# Altium footprint library MC-IMX6Q-BOARD.PcbLib: 56 footprints (part 4 of 4)
Each footprint in its own frame and in the unit in brackets; x right, y up, seen from the top. Pads: shape width x height; smd on the part's side, far side on the other; paste and mask are expansions set on the pad; w line width, h text height; cw(c..) or ccw(c..) is an arc to the next point about the centre after c.
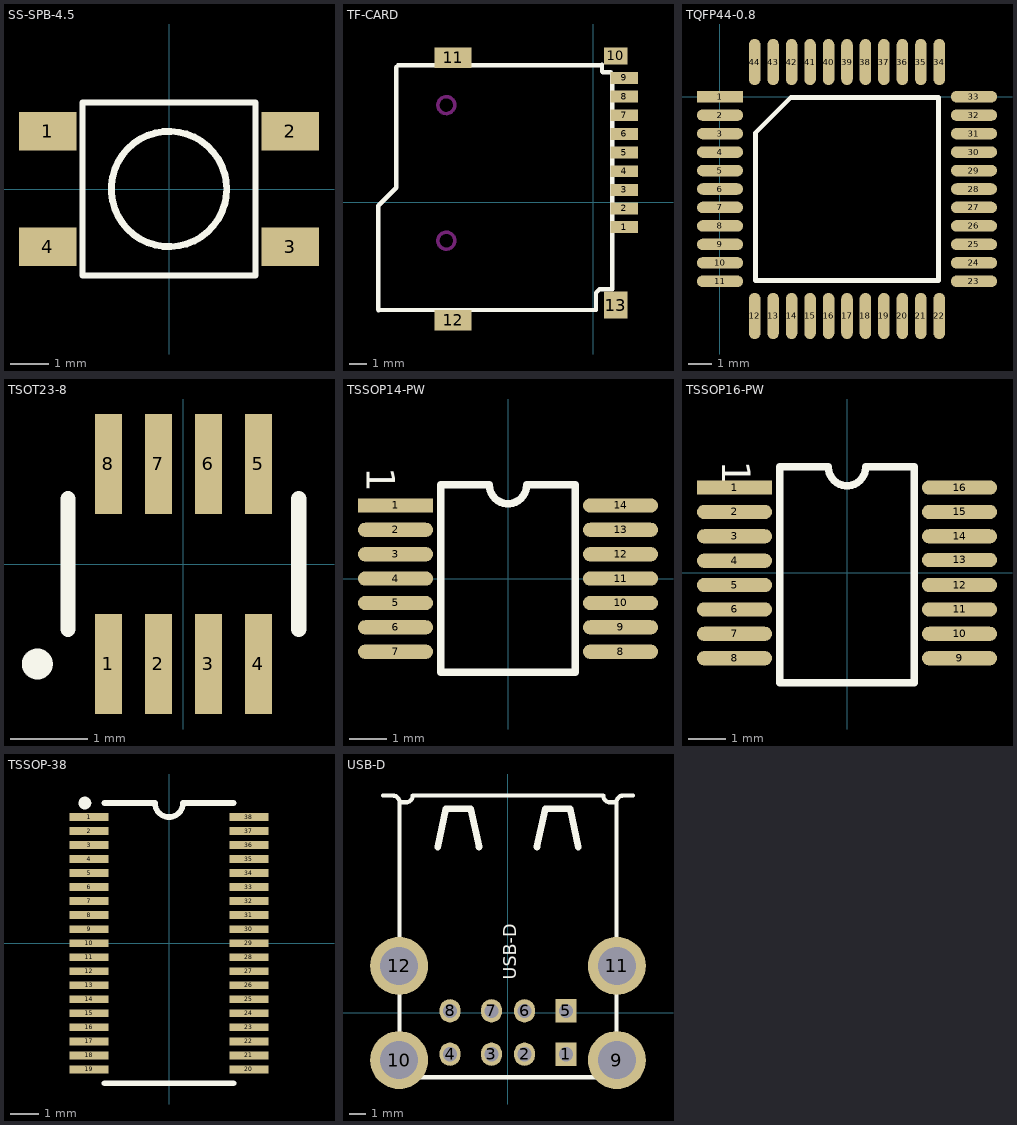
[diagram p3: the footprints below, top view; thin cyan lines are the x and y axes]

## SS-SPB-4.5 [mm]
height 1.35
pads (4):
  rect 1.5x1 smd: 1(-3.15,1.5) 2(3.15,1.5) 3(3.15,-1.5) 4(-3.15,-1.5)
Top Overlay:
  circle w0.178: c0,0 r1.5
  lines w0.152: -2.25,-2.25 -2.25,2.25 2.25,2.25 2.25,-2.25 -2.25,-2.25

## TF-CARD [mm]
height 1.35
pads (13):
  rect 1.6x0.7 smd: 1(1.82,-1.466) 2(1.82,-0.366) 3(1.82,0.734) 4(1.82,1.834) 5(1.82,2.934) 6(1.82,4.034) 7(1.82,5.134) 8(1.82,6.234) 9(1.82,7.334)
  rect 1.4x1 smd: 10(1.32,8.634)
  rect 2.2x1.2 smd: 11(-8.28,8.534) 12(-8.28,-6.966)
  rect 1.4x1.6 smd: 13(1.32,-6.066)
Top Overlay:
  lines w0.254: -12.7,-6.346 -12.7,-0.203 -11.633,0.864 -11.633,7.976 -11.532,8.077 0.457,8.077 0.508,8.128 0.508,7.722 0.559,7.671 1.016,7.671 1.118,7.569 1.118,-5.131 0.356,-5.131 0.152,-5.334 0.152,-6.35 -12.68,-6.366
Keep-Out Layer:
  circle w0.203: c-8.68,5.734 r0.5
  circle w0.203: c-8.68,-2.266 r0.5

## TQFP44-0.8 [mm]
height 1.35
pads (44):
  rect 2x0.5 smd: 1(0.009,0)
  oval 2x0.5 smd: 2(0.009,-0.8) 3(0.009,-1.6) 4(0.009,-2.4) 5(0.009,-3.2) 6(0.009,-4) 7(0.009,-4.8) 8(0.009,-5.6) 9(0.009,-6.4) 10(0.009,-7.2) 11(0.009,-8) 23(11.009,-8) 24(11.009,-7.2) 25(11.009,-6.4) 26(11.009,-5.6) 27(11.009,-4.8) 28(11.009,-4) 29(11.009,-3.2) 30(11.009,-2.4) 31(11.009,-1.6) 32(11.009,-0.8) 33(11.009,0)
  oval 0.5x2 smd: 12(1.509,-9.5) 13(2.309,-9.5) 14(3.109,-9.5) 15(3.909,-9.5) 16(4.709,-9.5) 17(5.509,-9.5) 18(6.309,-9.5) 19(7.109,-9.5) 20(7.909,-9.5) 21(8.709,-9.5) 22(9.509,-9.5) 34(9.509,1.501) 35(8.709,1.501) 36(7.909,1.501) 37(7.109,1.501) 38(6.309,1.501) 39(5.509,1.501) 40(4.709,1.501) 41(3.909,1.501) 42(3.109,1.501) 43(2.309,1.501) 44(1.509,1.501)
Top Overlay:
  lines w0.2: 1.544,-7.965 1.544,-1.57 3.079,-0.035 9.474,-0.035 9.474,-7.965 1.544,-7.965
  text "." at -1.69,0.12 h0.76

## TSOT23-8 [mm]
height 1.35
pads (8):
  rect 0.35x1.3 smd: 1(-0.975,-1.3) 2(-0.325,-1.3) 3(0.325,-1.3) 4(0.975,-1.3) 5(0.975,1.3) 6(0.325,1.3) 7(-0.325,1.3) 8(-0.975,1.3)
Top Overlay:
  circle w0.203: c-1.9,-1.3 r0.1
  lines w0.2: -1.5,-0.85 -1.5,0.85 ; 1.5,-0.85 1.5,0.85

## TSSOP14-PW [mm]
height 1.35
pads (14):
  rect 2x0.38 smd: 1(-3,1.95)
  oval 2x0.38 smd: 2(-3,1.3) 3(-3,0.65) 4(-3,0) 5(-3,-0.65) 6(-3,-1.3) 7(-3,-1.95) 8(3,-1.95) 9(3,-1.3) 10(3,-0.65) 11(3,0) 12(3,0.65) 13(3,1.3) 14(3,1.95)
Top Overlay:
  lines w0.2: -1.8,-2.5 -1.8,2.5 -0.5,2.5 ccw(c0,2.5) 0.5,2.5 1.8,2.5 1.8,-2.5 -1.8,-2.5
  text "1" at -3.762,2.966 h0.76

## TSSOP16-PW [mm]
height 1.35
pads (16):
  rect 2x0.38 smd: 1(-3,2.275)
  oval 2x0.38 smd: 2(-3,1.625) 3(-3,0.975) 4(-3,0.325) 5(-3,-0.325) 6(-3,-0.975) 7(-3,-1.625) 8(-3,-2.275) 9(3,-2.275) 10(3,-1.625) 11(3,-0.975) 12(3,-0.325) 13(3,0.345) 14(3,0.975) 15(3,1.625) 16(3,2.275)
Top Overlay:
  lines w0.2: -1.8,-2.925 -1.8,2.825 -0.5,2.825 ccw(c0,2.825) 0.5,2.825 1.8,2.825 1.8,-2.925 -1.8,-2.925
  text "1" at -3.33,2.987 h0.76

## TSSOP-38 [mm]
height 1.35
pads (38):
  rect 1.4x0.28 smd: 1(-2.85,4.5) 2(-2.85,4) 3(-2.85,3.5) 4(-2.85,3) 5(-2.85,2.5) 6(-2.85,2) 7(-2.85,1.5) 8(-2.85,1) 9(-2.85,0.5) 10(-2.85,0) 11(-2.85,-0.5) 12(-2.85,-1) 13(-2.85,-1.5) 14(-2.85,-2) 15(-2.85,-2.5) 16(-2.85,-3) 17(-2.85,-3.5) 18(-2.85,-4) 19(-2.85,-4.5) 20(2.85,-4.5) 21(2.85,-4) 22(2.85,-3.5) 23(2.85,-3) 24(2.85,-2.5) 25(2.85,-2) 26(2.85,-1.5) 27(2.85,-1) 28(2.85,-0.5) 29(2.85,0) 30(2.85,0.5) 31(2.85,1) 32(2.85,1.5) 33(2.85,2) 34(2.85,2.5) 35(2.85,3) 36(2.85,3.5) 37(2.85,4) 38(2.85,4.5)
Top Overlay:
  circle w0.254: c-3,5 r0.1
  lines w0.2: -2.3,-5 2.3,-5 ; -2.3,5 -0.5,5 ccw(c-0.001,5) 0.499,5 ; 0.5,5 2.3,5

## USB-D [mm]
height 1.35
pads (12):
  rect 1.27x1.4 hole 0.85: 1(3.5,-2.49) 5(3.5,0.13)
  oval 1.27x1.4 hole 0.85: 2(1,-2.49) 3(-1,-2.49) 4(-3.5,-2.49) 6(1,0.13) 7(-1,0.13) 8(-3.5,0.13)
  round 3.5 hole 2.3: 9(6.57,-2.84) 10(-6.57,-2.84) 11(6.57,2.84) 12(-6.57,2.84)
Top Overlay:
  lines w0.254: -7.55,13.12 -6.95,13.12 cw(c-6.95,12.72) -6.55,12.72 ; -6.55,-3.88 -6.55,12.72 ; -6.5,-3.88 6.6,-3.88 ; 6.55,-3.88 6.55,12.72 ; 6.85,13.12 7.55,13.12 ; 6.95,13.12 ccw(c6.95,12.72) 6.55,12.72 ; -6.55,12.72 -6.15,12.72 ccw(c-6.15,13.12) -5.75,13.12 5.75,13.12 ccw(c6.15,13.12) 6.15,12.72 6.55,12.72
  lines w0.4: -4.25,10.02 -3.75,12.32 -2.25,12.32 -1.75,10.02 ; 1.75,10.02 2.25,12.32 3.75,12.32 4.25,10.02
  text "USB-D" at 0.5,2.01 h0.76